# EAGLE library part MMA626* (library 0-svo-freescale-MMA)
MMA6260Q, MMA6261Q, MMA6262Q, MMA6263Q +/- 1.5g Dual Axis Micromachined Accelerometer The MMA6200 series of low cost capacitive micromachined accelerometers feature signal conditioning, a 1-pole low pass filter and temperature compensation. Zero-g offset full scale span and filter cut-off are factory set and require no external devices. A full system self-test capability verifies system functionality. Device name Bandwidth response Idd MMA6260Q 50Hz 1.2mA MMA6261Q 300Hz 1.2mA MMA6262Q 150Hz 2.2mA MMA6263Q 900Hz 2.2mA Source: Freescale Semiconductor Datasheet. MMA6260Q Rev.2 10/2004
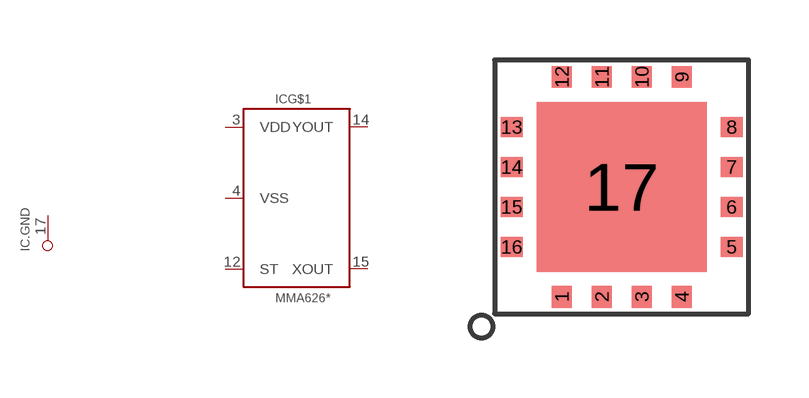
[diagram p0: symbol with the pads of QFN16; footprint QFN16]

Designator prefix IC; gates G$1=MMA626*Q .GND=PWRN

## MMA6260Q, MMA6261Q, MMA6262Q, MMA6263Q  [QFN16]
3  G$1:VDD  sup
4  G$1:VSS  sup
12  G$1:ST  in
14  G$1:YOUT  out
15  G$1:XOUT  out
17  .GND:GND  sup

## Footprint QFN16 (pad centres in mm)
16 LEAD QFN CASE 1477-01
smd 0.5 x 0.55: 1 -1.5,-2.75; 2 -0.5,-2.75; 3 0.5,-2.75; 4 1.5,-2.75; 9 1.5,2.75; 10 0.5,2.75; 11 -0.5,2.75; 12 -1.5,2.75
smd 0.55 x 0.5: 5 2.75,-1.5; 6 2.75,-0.5; 7 2.75,0.5; 8 2.75,1.5; 13 -2.75,1.5; 14 -2.75,0.5; 15 -2.75,-0.5; 16 -2.75,-1.5
smd 4.25 x 4.25: 17 0,0